# EAGLE library part PMS5003 (library project_02_lib)
Breakout board of the PMS5003 by Plantower and distributed by Adafruit. Connects to the corresponding terminals on the PMS5003 dust sensor.
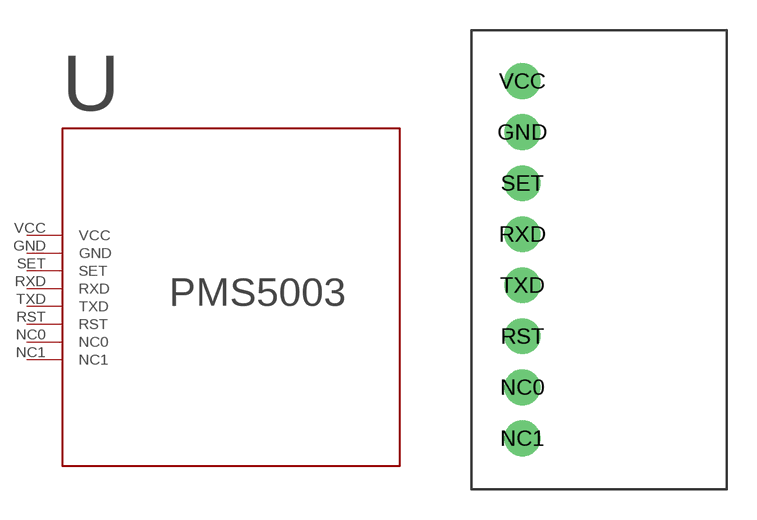
[diagram p3: symbol with the pads of PMS5003; footprint PMS5003]

Designator prefix -

## PMS5003  [PMS5003]
GND  GND
NC0  NC0
NC1  NC1
RST  RST
RXD  RXD
SET  SET
TXD  TXD
VCC  VCC

## Footprint PMS5003 (pad centres in mm)
drill 1.016 pad 1.778: GND 0,-2.54; NC0 0,-15.24; NC1 0,-17.78; RST 0,-12.7; RXD 0,-7.62; SET 0,-5.08; TXD 0,-10.16; VCC 0,0